# Altium schematic symbol library eFuse.SchLib: 3 symbols
Pins are listed as number, name and electrical type; pins without a type are passive.

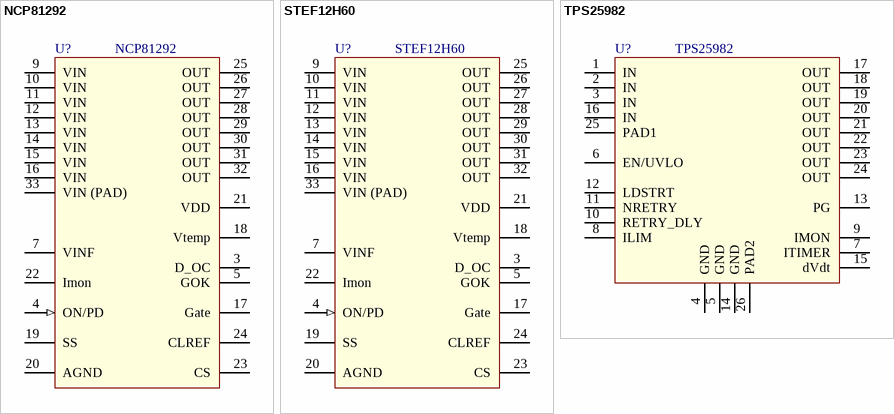
[diagram p0: symbols NCP81292 to TPS25982]

## NCP81292
designator U?
60 A electronic fuse for 12 V DC rail; value: TPS53127PW
footprint QFN-32-5X5
pins: 3 D_OC (oc), 4 ON/PD (in), 5 GOK (oc), 7 VINF (power), 9 VIN (power), 10 VIN (power), 11 VIN (power), 12 VIN (power), 13 VIN (power), 14 VIN (power), 15 VIN (power), 16 VIN (power), 17 Gate, 18 Vtemp, 19 SS, 20 AGND (power), 21 VDD (power), 22 Imon, 23 CS, 24 CLREF, 25 OUT (power), 26 OUT (power), 27 OUT (power), 28 OUT (power), 29 OUT (power), 30 OUT (power), 31 OUT (power), 32 OUT (power), 33 VIN (PAD) (power)

## STEF12H60
designator U?
60 A electronic fuse for 12 V DC rail; value: TPS53127PW
footprint QFN-32-5X5
pins: 3 D_OC (oc), 4 ON/PD (in), 5 GOK (oc), 7 VINF (power), 9 VIN (power), 10 VIN (power), 11 VIN (power), 12 VIN (power), 13 VIN (power), 14 VIN (power), 15 VIN (power), 16 VIN (power), 17 Gate, 18 Vtemp, 19 SS, 20 AGND (power), 21 VDD (power), 22 Imon, 23 CS, 24 CLREF, 25 OUT (power), 26 OUT (power), 27 OUT (power), 28 OUT (power), 29 OUT (power), 30 OUT (power), 31 OUT (power), 32 OUT (power), 33 VIN (PAD) (power)

## TPS25982
designator U?
2.7-V to 24-V, 2.7mΩ, 15-A Smart eFuse -Integrated Hot-Swap protection with 1.5% Accurate Load Current Monitoring and Adjustable Transient Fault Management; value: TPS53127PW
footprint PVQFN-24-4x4-TP2 (24-Pin Plastic Quad Flat No-Lead 0.5 mm Pitch, IPC Low Density, Two thermal pads)
pins: 1 IN (power), 2 IN (power), 3 IN (power), 4 GND (power), 5 GND (power), 6 EN/UVLO, 7 ITIMER, 8 ILIM, 9 IMON, 10 RETRY_DLY, 11 NRETRY, 12 LDSTRT, 13 PG (oc), 14 GND (power), 15 dVdt, 16 IN (power), 17 OUT, 18 OUT, 19 OUT, 20 OUT, 21 OUT, 22 OUT, 23 OUT, 24 OUT, 25 PAD1 (power), 26 PAD2 (power)